# Altium footprint library Si_Diode_Footprint.PcbLib: 1 footprints
Each footprint in its own frame and in the unit in brackets; x right, y up, seen from the top. Pads: shape width x height; smd on the part's side, far side on the other; paste and mask are expansions set on the pad; w line width, h text height; cw(c..) or ccw(c..) is an arc to the next point about the centre after c.
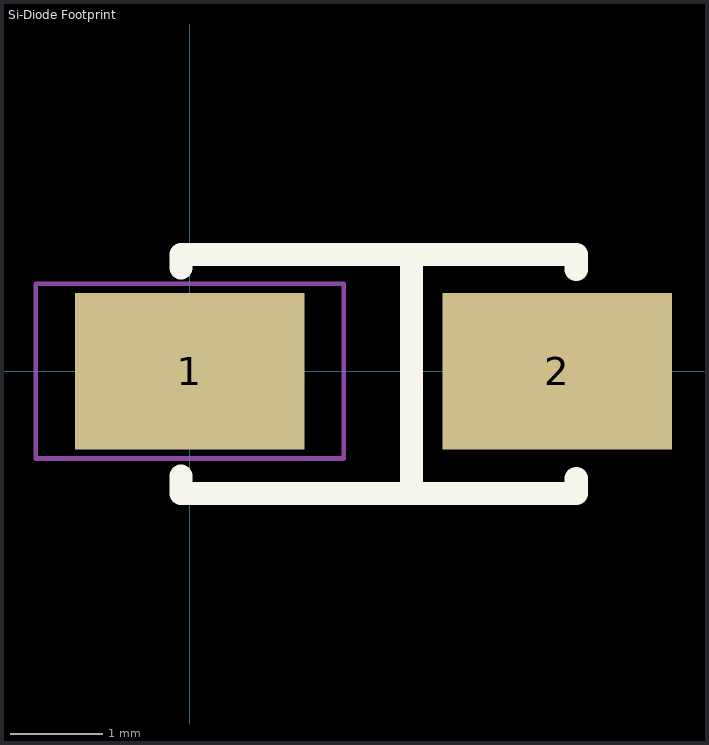
[diagram p0: the footprint, top view; thin cyan lines are the x and y axes]

## Si-Diode Footprint [mm]
pads (2):
  rect 2.5x1.7 smd: 1(0,0) 2(4,0)
Top Overlay:
  lines w0.254: -0.095,-1.14 -0.095,-1.33 4.205,-1.33 4.205,-1.167 ; -0.095,1.126 -0.095,1.27 4.205,1.27 4.205,1.107 ; 2.413,-1.27 2.413,1.27
  text ".Designator" at -2.413,2.286 h1.52
Mechanical 20:
  lines w0.05: -1.675,-0.95 1.675,-0.95 1.675,0.95 -1.675,0.95 -1.675,-0.95